# Altium schematic symbol library plataformas.SchLib: 1 symbol
Pins are listed as number, name and electrical type; pins without a type are passive.

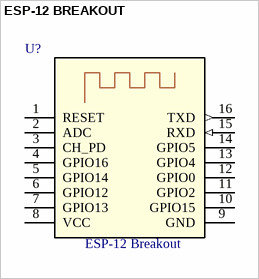
[diagram p0: symbol ESP-12 BREAKOUT]

## ESP-12 BREAKOUT
designator U?, comment ESP-12 Breakout
footprint ENCAIXE ESP12-E ADAPTER (Barras fêmeas para encaixe do adaptador ESP-12)
pins: 1 RESET, 2 ADC, 3 CH_PD, 4 GPIO16, 5 GPIO14, 6 GPIO12, 7 GPIO13, 8 VCC (power), 9 GND (power), 10 GPIO15, 11 GPIO2, 12 GPIO0, 13 GPIO4, 14 GPIO5, 15 RXD (in), 16 TXD (out)